# Altium footprint library components.PcbLib: 1 footprints
Each footprint in its own frame and in the unit in brackets; x right, y up, seen from the top. Pads: shape width x height; smd on the part's side, far side on the other; paste and mask are expansions set on the pad; w line width, h text height; cw(c..) or ccw(c..) is an arc to the next point about the centre after c.
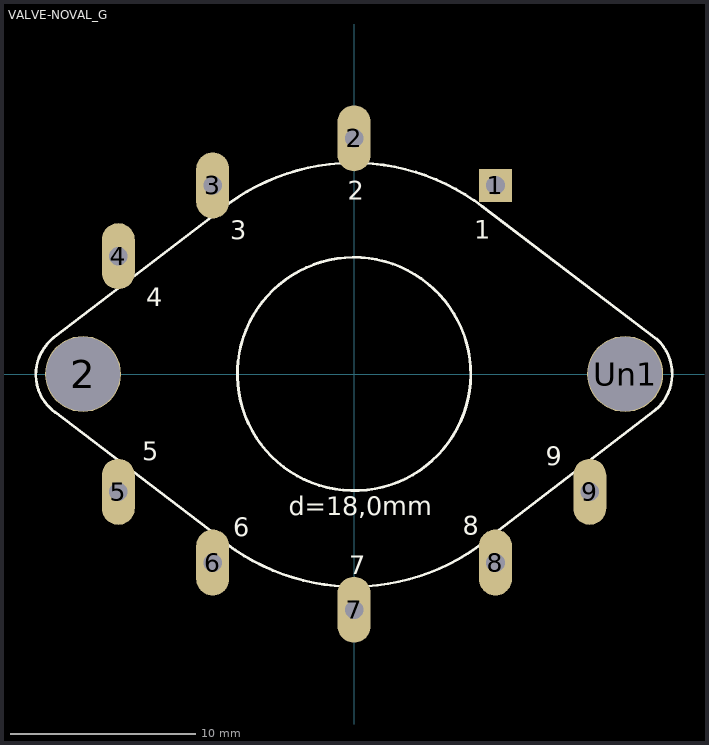
[diagram p0: the footprint, top view; thin cyan lines are the x and y axes]

## VALVE-NOVAL_G [mil]
pads (11):
  rect 70x70 hole 39.3: 1(300,400)
  round 161.4 hole 157.5: 2(-575,0) Un1(575,0)
  oval 70x140 hole 39.3: 2(0,500) 3(-300,400) 4(-500,250) 5(-500,-250) 6(-300,-400) 7(0,-500) 8(300,-400) 9(500,-250)
F.SilkS:
  circle w5.91: c0,0 r247.49
  lines w5.91: -636.08,77.81 ccw(c-576,-1) -633.1,-82 ; -635,-80 -268,-360 ; -635,79 -280,350 ; -283.9,347.9 cw(c-1,-2) 273.81,354.29 ; -270.43,-360.37 ccw(c0,-2) 277.4,-355 ; 271,356 642,74 cw(c575,0) 638.69,-76.87 ; 275,-356 641,-75
  text "1" at 255.41,287.41 h39.37
  text "2" at -13.03,369.41 h39.37
  text "3" at -263.03,285.41 h39.37
  text "4" at -440.96,143.41 h39.37
  text "5" at -449.03,-182.59 h39.37
  text "6" at -256.09,-344.59 h39.37
  text "7" at -10.03,-424.59 h39.37
  text "8" at 230.97,-340.59 h39.37
  text "9" at 406.91,-193.59 h39.37
  text "d=18,0mm" at -138.17,-299.33 h39.37